# Altium footprint library 15EDGVC-3.5-08.PcbLib: 1 footprints
Each footprint in its own frame and in the unit in brackets; x right, y up, seen from the top. Pads: shape width x height; smd on the part's side, far side on the other; paste and mask are expansions set on the pad; w line width, h text height; cw(c..) or ccw(c..) is an arc to the next point about the centre after c.
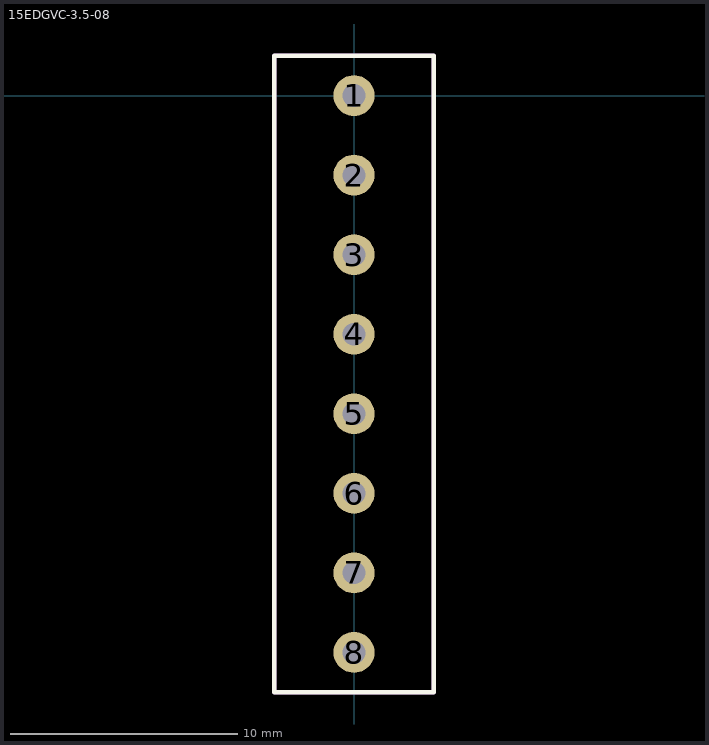
[diagram p0: the footprint, top view; thin cyan lines are the x and y axes]

## 15EDGVC-3.5-08 [mm]
pads (8):
  round 1.8 hole 1: 1(0,0) 2(0,-3.5) 3(0,-7) 4(0,-10.5) 5(0,-14) 6(0,-17.5) 7(0,-21) 8(0,-24.5)
Top Overlay:
  lines w0.2: -3.5,-26.25 3.5,-26.25 3.5,1.75 -3.5,1.75 -3.5,-26.25
TopAssy:
  lines w0.2: -3.5,-26.25 3.5,-26.25 3.5,1.75 -3.5,1.75 -3.5,-26.25